# Altium footprint library USB2.0 Type A Vertical.PcbLib: 1 footprints
Each footprint in its own frame and in the unit in brackets; x right, y up, seen from the top. Pads: shape width x height; smd on the part's side, far side on the other; paste and mask are expansions set on the pad; w line width, h text height; cw(c..) or ccw(c..) is an arc to the next point about the centre after c.
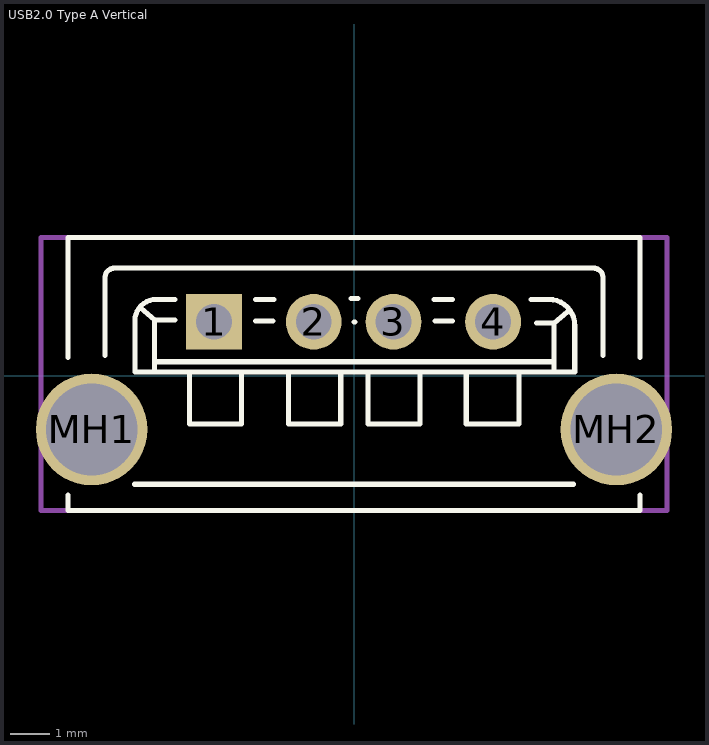
[diagram p0: the footprint, top view; thin cyan lines are the x and y axes]

## USB2.0 Type A Vertical [mm] "USB2.0 Type A Vertical"
pads (6):
  rect 1.4x1.4 hole 0.9: 1(-3.51,1.35)
  round 1.4 hole 0.9: 2(-1.01,1.35) 3(0.99,1.35) 4(3.49,1.35)
  round 2.8 hole 2.3: MH1(-6.58,-1.35) MH2(6.58,-1.35)
Top Overlay:
  lines w0.127: -7.175,-3 -7.175,-3.38 7.175,-3.38 7.175,-3 ; -7.175,0.45 -7.175,3.46 7.175,3.46 7.175,0.45 ; -6.25,0.5 -6.25,2.445 cw(c-6,2.445) -6,2.695 6,2.695 cw(c6,2.445) 6.25,2.445 6.25,0.5 ; -5.5,-2.725 5.5,-2.725 ; -5.473,0.089 5.536,0.089 5.536,1.267 ccw(c4.893,1.267) 4.893,1.91 4.445,1.91 ; -5.345,1.696 -5.002,1.396 ; -5.002,0.348 5,0.348 ; -4.496,1.396 -5.002,1.396 ; -4.496,1.91 -4.959,1.91 ccw(c-4.959,1.374) -5.494,1.374 -5.494,0.089 -5.002,0.089 -5.002,1.396 ; -4.124,0.068 -4.124,-1.217 -2.817,-1.217 -2.817,0.068 ; -2.464,1.372 -2.032,1.372 ; -2.464,1.905 -2.007,1.905 ; -1.639,0.068 -1.639,-1.217 -0.333,-1.217 -0.333,0.046 ; -0.076,1.93 0.102,1.93 ; 0,1.346 0.025,1.346 ; 0.353,0.025 0.353,-1.217 1.659,-1.217 1.659,0.068 1.681,0.068 ; 2.007,1.905 2.464,1.905 ; 2.032,1.372 2.464,1.372 ; 2.816,0.046 2.816,-1.217 4.144,-1.217 4.144,0.046 ; 4.572,1.32 5.02,1.32 5.02,0.102 ; 5.022,1.32 5.343,1.598
Mechanical 15:
  lines w0.127: -7.85,-3.38 -7.85,3.46 7.85,3.46 7.85,-3.38 -7.85,-3.38
3D body: height 3.47, standoff -15.33, extent -7.85,-3.38 7.85,3.46